# Altium integrated library Dallas Memory Serial RAM.IntLib: 4 symbols
Pins are listed as number, name and electrical type; pins without a type are passive.

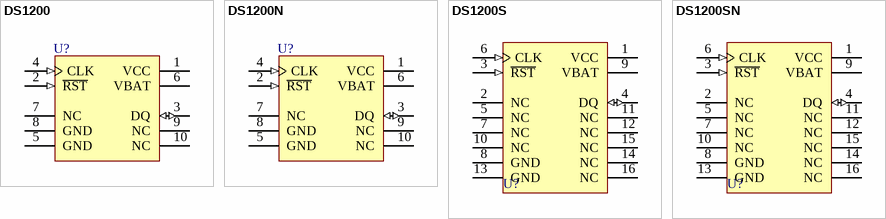
[diagram p0: symbols DS1200 to DS1200SN]

## DS1200
designator U?
Serial RAM Chip; PackageDocument: 1999; Note: Pin numbers 7, 9 and 10 are Not Connected (NC); Published: 13-Oct-2000; LatestRevisionDate: 06-Jun-2005; LatestRevisionNote: Stylized 3D Model Added.; DatasheetDocument: 5-Mar-1998; PackageReference: DIP10; Publisher: Altium Limited; ComponentLink1Description: Manufacturer Link; ComponentLink1URL: http://www.maxim-ic.com/; ComponentLink2Description: Datasheet; ComponentLink2URL: http://pdfserv.maxim-ic.com/en/ds/DS1200.pdf
footprint DIP10 (DIP; 10 Leads; Row Spacing 7.62 mm; Pitch 2.54 mm)
12/04/2005 DIP10 (DIP; 10 Leads; Row Spacing 7.62 mm; Pitch 2.54 mm)
pins: 1 VCC (power), 2 ~{RST} (in), 3 DQ (io), 4 CLK (in), 5 GND (power), 6 VBAT (power), 7 NC, 8 GND (power), 9 NC, 10 NC

## DS1200N
designator U?
Serial RAM Chip; PackageDocument: 1999; Note: Pin numbers 7, 9 and 10 are Not Connected (NC); Published: 13-Oct-2000; LatestRevisionDate: 06-Jun-2005; LatestRevisionNote: Stylized 3D Model Added.; DatasheetDocument: 5-Mar-1998; PackageReference: DIP10; Publisher: Altium Limited; ComponentLink1Description: Manufacturer Link; ComponentLink1URL: http://www.maxim-ic.com/; ComponentLink2Description: Datasheet; ComponentLink2URL: http://pdfserv.maxim-ic.com/en/ds/DS1200.pdf
footprint DIP10 (DIP; 10 Leads; Row Spacing 7.62 mm; Pitch 2.54 mm)
3D model DIP10 (DIP; 10 Leads; Row Spacing 7.62 mm; Pitch 2.54 mm)
pins: 1 VCC (power), 2 ~{RST} (in), 3 DQ (io), 4 CLK (in), 5 GND (power), 6 VBAT (power), 7 NC, 8 GND (power), 9 NC, 10 NC

## DS1200S
designator U?
Serial RAM Chip; PackageDocument: 1999; Note: Pin numbers 2, 5, 7, 10, 11, 12, 14, 15 and 16 are Not Connected (NC); Published: 13-Oct-2000; LatestRevisionDate: 06-Jun-2005; LatestRevisionNote: Stylized 3D Model Added.; DatasheetDocument: 5-Mar-1998; PackageReference: SOIC16W; Publisher: Altium Limited; ComponentLink1Description: Manufacturer Link; ComponentLink1URL: http://www.maxim-ic.com/; ComponentLink2Description: Datasheet; ComponentLink2URL: http://pdfserv.maxim-ic.com/en/ds/DS1200.pdf
footprint SOIC16W (Small Outline; 16 Leads; Body Width 7.5 mm; Pitch 1.27 mm)
3D model SOIC16W (Small Outline; 16 Leads; Body Width 7.5 mm; Pitch 1.27 mm)
pins: 1 VCC (power), 2 NC, 3 ~{RST} (in), 4 DQ (io), 5 NC, 6 CLK (in), 7 NC, 8 GND (power), 9 VBAT (power), 10 NC, 11 NC, 12 NC, 13 GND (power), 14 NC, 15 NC, 16 NC

## DS1200SN
designator U?
Serial RAM Chip; PackageDocument: 1999; Note: Pin numbers 2, 5, 7, 10, 11, 12, 14, 15 and 16 are Not Connected (NC); Published: 13-Oct-2000; LatestRevisionDate: 06-Jun-2005; LatestRevisionNote: Stylized 3D Model Added.; DatasheetDocument: 5-Mar-1998; PackageReference: SOIC16W; Publisher: Altium Limited; ComponentLink1Description: Manufacturer Link; ComponentLink1URL: http://www.maxim-ic.com/; ComponentLink2Description: Datasheet; ComponentLink2URL: http://pdfserv.maxim-ic.com/en/ds/DS1200.pdf
footprint SOIC16W (Small Outline; 16 Leads; Body Width 7.5 mm; Pitch 1.27 mm)
3D model SOIC16W (Small Outline; 16 Leads; Body Width 7.5 mm; Pitch 1.27 mm)
pins: 1 VCC (power), 2 NC, 3 ~{RST} (in), 4 DQ (io), 5 NC, 6 CLK (in), 7 NC, 8 GND (power), 9 VBAT (power), 10 NC, 11 NC, 12 NC, 13 GND (power), 14 NC, 15 NC, 16 NC